# EAGLE library part PINHEAD_2X08 (library pinhead)
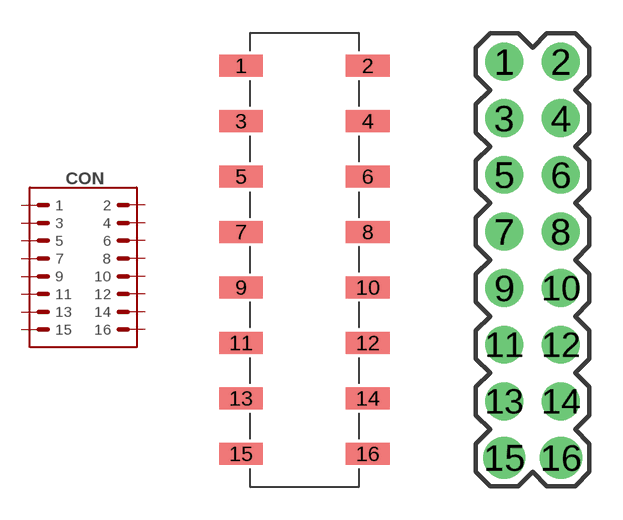
[diagram p22: symbol with the pads of PINHEAD_2X08_SMD_MALE; footprints PINHEAD_2X08_SMD_MALE, 2X08-PTH-2.54]

Designator prefix CON

## PINHEAD_2X08-SMD (DIGIKEY#: S5717-ND; MANF: Sullins Connector Solutions; MANF#: NPPC082KFMS-RC)  [PINHEAD_2X08_SMD_MALE]
1  1  pas
2  2  pas
3  3  pas
4  4  pas
5  5  pas
6  6  pas
7  7  pas
8  8  pas
9  9  pas
10  10  pas
11  11  pas
12  12  pas
13  13  pas
14  14  pas
15  15  pas
16  16  pas

## PINHEAD_2X08-TH-MALE  [2X08-PTH-2.54]
Pads as for PINHEAD_2X08_SMD_MALE

## PINHEAD_2X08-TH-FEMALE  [2X08-PTH-2.54-FEMALE]
Pads as for PINHEAD_2X08_SMD_MALE

## PINHEAD_2X08-TH-FEMALE-LONG (DIGIKEY#: SAM10008-ND; MANF: Samtec Inc; MANF#: SSQ-108-23-G-D)  [2X08-PTH-2.54-FEMALE-LONG-PINS]
Pads as for PINHEAD_2X08_SMD_MALE

## Footprint PINHEAD_2X08_SMD_MALE (pad centres in mm)
smd 2 x 1: 1 -2.9,8.89; 2 2.9,8.89; 3 -2.9,6.35; 4 2.9,6.35; 5 -2.9,3.81; 6 2.9,3.81; 7 -2.9,1.27; 8 2.9,1.27; 9 -2.9,-1.27; 10 2.9,-1.27; 11 -2.9,-3.81; 12 2.9,-3.81; 13 -2.9,-6.35; 14 2.9,-6.35; 15 -2.9,-8.89; 16 2.9,-8.89

## Footprint 2X08-PTH-2.54 (pad centres in mm)
drill 1 pad 1.7: 1 -1.27,8.89; 2 1.27,8.89; 3 -1.27,6.35; 4 1.27,6.35; 5 -1.27,3.81; 6 1.27,3.81; 7 -1.27,1.27; 8 1.27,1.27; 9 -1.27,-1.27; 10 1.27,-1.27; 11 -1.27,-3.81; 12 1.27,-3.81; 13 -1.27,-6.35; 14 1.27,-6.35
drill 1 pad 1.9: 15 -1.27,-8.89; 16 1.27,-8.89

## Footprint 2X08-PTH-2.54-FEMALE (pad centres in mm)
drill 1.016 octagon: 1 -1.27,8.89; 2 1.27,8.89; 3 -1.27,6.35; 4 1.27,6.35; 5 -1.27,3.81; 6 1.27,3.81; 7 -1.27,1.27; 8 1.27,1.27; 9 -1.27,-1.27; 10 1.27,-1.27; 11 -1.27,-3.81; 12 1.27,-3.81; 13 -1.27,-6.35; 14 1.27,-6.35; 15 -1.27,-8.89; 16 1.27,-8.89

## Footprint 2X08-PTH-2.54-FEMALE-LONG-PINS (pad centres in mm)
drill 1.016 octagon: 1 -1.27,8.89; 2 1.27,8.89; 3 -1.27,6.35; 4 1.27,6.35; 5 -1.27,3.81; 6 1.27,3.81; 7 -1.27,1.27; 8 1.27,1.27; 9 -1.27,-1.27; 10 1.27,-1.27; 11 -1.27,-3.81; 12 1.27,-3.81; 13 -1.27,-6.35; 14 1.27,-6.35; 15 -1.27,-8.89; 16 1.27,-8.89